# EAGLE library part 2X4PINHEAD (library 2X4PINHEAD)
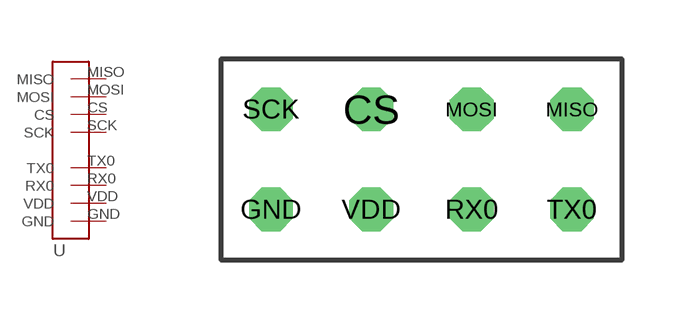
[diagram p0: symbol with the pads of 2X4PINHEAD; footprint 2X4PINHEAD]

Designator prefix -

## 2X4PINHEAD  [2X4PINHEAD]
CS  CS
GND  GND
MISO  MISO
MOSI  MOSI
RX0  RX0
SCK  SCK
TX0  TX0
VDD  VDD

## Footprint 2X4PINHEAD (pad centres in mm)
drill 0.6 octagon: CS 3.81,3.81; GND 1.27,1.27; MISO 8.89,3.81; MOSI 6.35,3.81; RX0 6.35,1.27; SCK 1.27,3.81; TX0 8.89,1.27; VDD 3.81,1.27